# EAGLE library part ICE40HX4K-CB132 (library lattice)
IC FPGA 95 I/O CSBGA-132
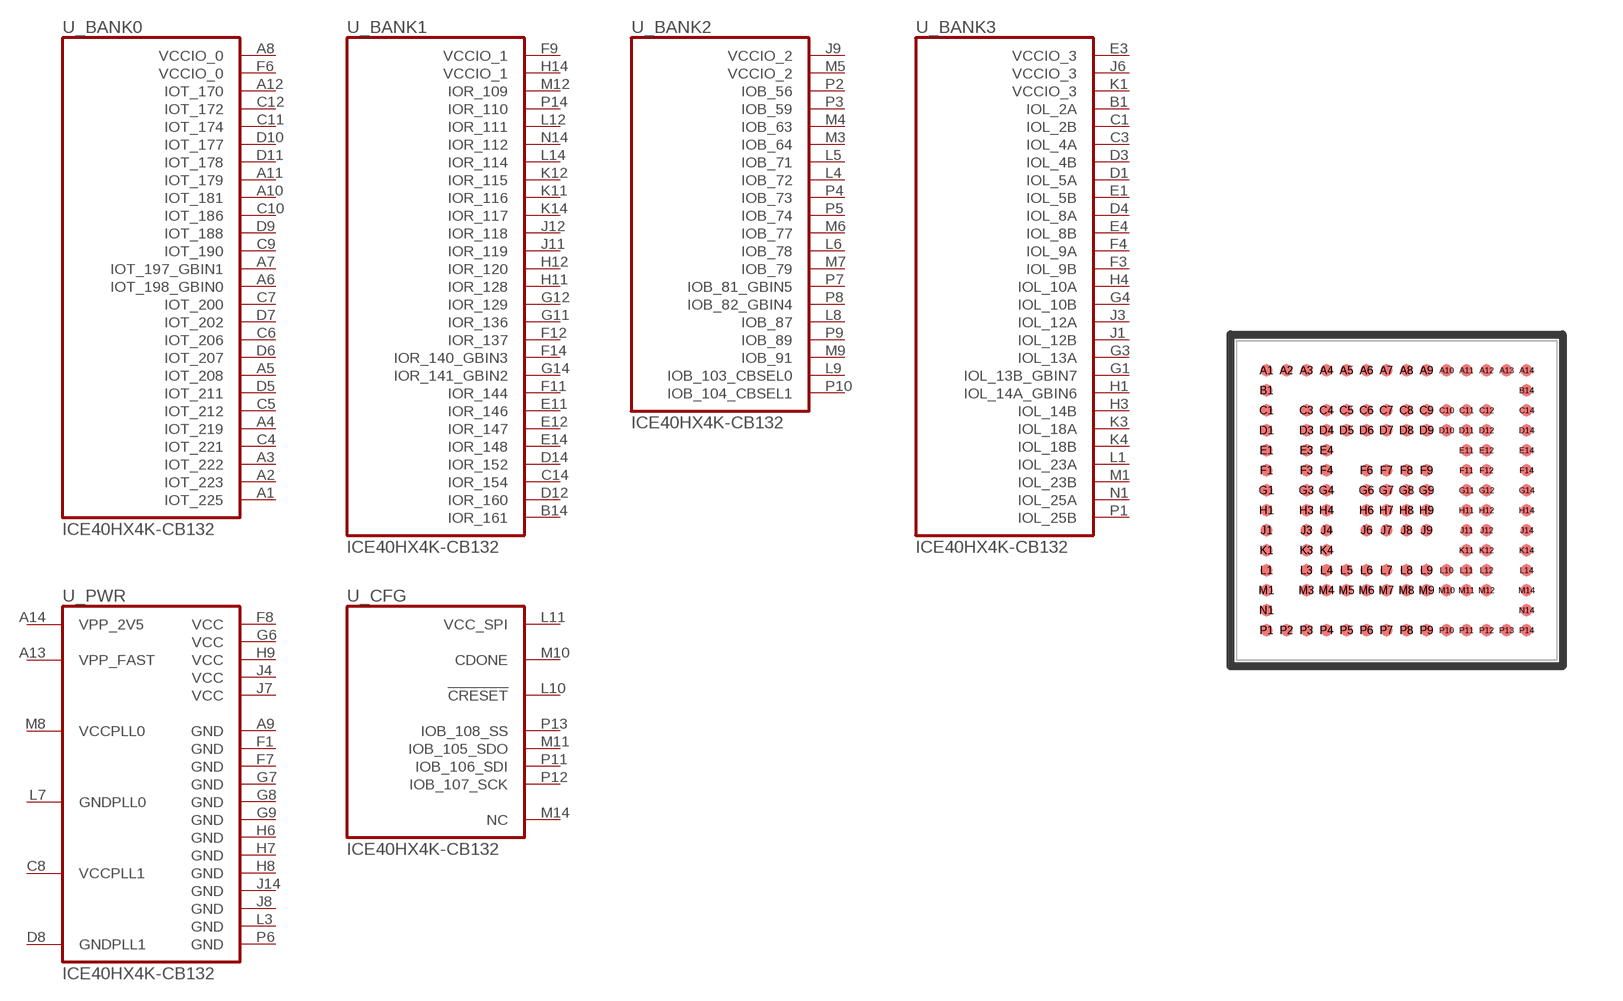
[diagram p11: symbol with the pads of CSBGA132_2; footprint CSBGA132_2]

Designator prefix U; gates _BANK0=ICE40HX4K-CB132-BANK0 _BANK2=ICE40HX4K-CB132-BANK1 _BANK1=ICE40HX4K-CB132-BANK_1 _BANK3=ICE40HX4K-CB132-BANK3 _CFG=ICE40HX4K-CB132-CFG _PWR=ICE40HX4K-CB132-PWR

## ICE40HX4K-CB132  [CSBGA132_2]
A1  _BANK0:IOT_225  pas
A2  _BANK0:IOT_223  pas
A3  _BANK0:IOT_222  pas
A4  _BANK0:IOT_219  pas
A5  _BANK0:IOT_208  pas
A6  _BANK0:IOT_198_GBIN0  pas
A7  _BANK0:IOT_197_GBIN1  pas
A8  _BANK0:VCCIO_0  pwr
A9  _PWR:GND  pwr
A10  _BANK0:IOT_181  pas
A11  _BANK0:IOT_179  pas
A12  _BANK0:IOT_170  pas
A13  _PWR:VPP_FAST  pwr
A14  _PWR:VPP_2V5  pwr
B1  _BANK3:IOL_2A  pas
B14  _BANK1:IOR_161  pas
C1  _BANK3:IOL_2B  pas
C3  _BANK3:IOL_4A  pas
C4  _BANK0:IOT_221  pas
C5  _BANK0:IOT_212  pas
C6  _BANK0:IOT_206  pas
C7  _BANK0:IOT_200  pas
C8  _PWR:VCCPLL1  pwr
C9  _BANK0:IOT_190  pas
C10  _BANK0:IOT_186  pas
C11  _BANK0:IOT_174  pas
C12  _BANK0:IOT_172  pas
C14  _BANK1:IOR_154  pas
D1  _BANK3:IOL_5A  pas
D3  _BANK3:IOL_4B  pas
D4  _BANK3:IOL_8A  pas
D5  _BANK0:IOT_211  pas
D6  _BANK0:IOT_207  pas
D7  _BANK0:IOT_202  pas
D8  _PWR:GNDPLL1  pwr
D9  _BANK0:IOT_188  pas
D10  _BANK0:IOT_177  pas
D11  _BANK0:IOT_178  pas
D12  _BANK1:IOR_160  pas
D14  _BANK1:IOR_152  pas
E1  _BANK3:IOL_5B  pas
E3  _BANK3:VCCIO_3  pwr
E4  _BANK3:IOL_8B  pas
E11  _BANK1:IOR_146  pas
E12  _BANK1:IOR_147  pas
E14  _BANK1:IOR_148  pas
F1  _PWR:GND  pwr
F3  _BANK3:IOL_9B  pas
F4  _BANK3:IOL_9A  pas
F6  _BANK0:VCCIO_0  pwr
F7  _PWR:GND  pwr
F8  _PWR:VCC  pwr
F9  _BANK1:VCCIO_1  pwr
F11  _BANK1:IOR_144  pas
F12  _BANK1:IOR_137  pas
F14  _BANK1:IOR_140_GBIN3  pas
G1  _BANK3:IOL_13B_GBIN7  pas
G3  _BANK3:IOL_13A  pas
G4  _BANK3:IOL_10B  pas
G6  _PWR:VCC  pwr
G7  _PWR:GND  pwr
G8  _PWR:GND  pwr
G9  _PWR:GND  pwr
G11  _BANK1:IOR_136  pas
G12  _BANK1:IOR_129  pas
G14  _BANK1:IOR_141_GBIN2  pas
H1  _BANK3:IOL_14A_GBIN6  pas
H3  _BANK3:IOL_14B  pas
H4  _BANK3:IOL_10A  pas
H6  _PWR:GND  pwr
H7  _PWR:GND  pwr
H8  _PWR:GND  pwr
H9  _PWR:VCC  pwr
H11  _BANK1:IOR_128  pas
H12  _BANK1:IOR_120  pas
H14  _BANK1:VCCIO_1  pwr
J1  _BANK3:IOL_12B  pas
J3  _BANK3:IOL_12A  pas
J4  _PWR:VCC  pwr
J6  _BANK3:VCCIO_3  pwr
J7  _PWR:VCC  pwr
J8  _PWR:GND  pwr
J9  _BANK2:VCCIO_2  pwr
J11  _BANK1:IOR_119  pas
J12  _BANK1:IOR_118  pas
J14  _PWR:GND  pwr
K1  _BANK3:VCCIO_3  pwr
K3  _BANK3:IOL_18A  pas
K4  _BANK3:IOL_18B  pas
K11  _BANK1:IOR_116  pas
K12  _BANK1:IOR_115  pas
K14  _BANK1:IOR_117  pas
L1  _BANK3:IOL_23A  pas
L3  _PWR:GND  pwr
L4  _BANK2:IOB_72  pas
L5  _BANK2:IOB_71  pas
L6  _BANK2:IOB_78  pas
L7  _PWR:GNDPLL0  pwr
L8  _BANK2:IOB_87  pas
L9  _BANK2:IOB_103_CBSEL0  pas
L10  _CFG:!CRESET!  pas
L11  _CFG:VCC_SPI  pwr
L12  _BANK1:IOR_111  pas
L14  _BANK1:IOR_114  pas
M1  _BANK3:IOL_23B  pas
M3  _BANK2:IOB_64  pas
M4  _BANK2:IOB_63  pas
M5  _BANK2:VCCIO_2  pwr
M6  _BANK2:IOB_77  pas
M7  _BANK2:IOB_79  pas
M8  _PWR:VCCPLL0  pwr
M9  _BANK2:IOB_91  pas
M10  _CFG:CDONE  pas
M11  _CFG:IOB_105_SDO  pas
M12  _BANK1:IOR_109  pas
M14  _CFG:NC  nc
N1  _BANK3:IOL_25A  pas
N14  _BANK1:IOR_112  pas
P1  _BANK3:IOL_25B  pas
P2  _BANK2:IOB_56  pas
P3  _BANK2:IOB_59  pas
P4  _BANK2:IOB_73  pas
P5  _BANK2:IOB_74  pas
P6  _PWR:GND  pwr
P7  _BANK2:IOB_81_GBIN5  pas
P8  _BANK2:IOB_82_GBIN4  pas
P9  _BANK2:IOB_89  pas
P10  _BANK2:IOB_104_CBSEL1  pas
P11  _CFG:IOB_106_SDI  pas
P12  _CFG:IOB_107_SCK  pas
P13  _CFG:IOB_108_SS  pas
P14  _BANK1:IOR_110  pas

## Footprint CSBGA132_2 (pad centres in mm)
132-Ball csBGA Package Option 2: iCE40
smd 0.3 x 0.3: A1 -3.25,3.25; A2 -2.75,3.25; A3 -2.25,3.25; A4 -1.75,3.25; A5 -1.25,3.25; A6 -0.75,3.25; A7 -0.25,3.25; A8 0.25,3.25; A9 0.75,3.25; A10 1.25,3.25; A11 1.75,3.25; A12 2.25,3.25; A13 2.75,3.25; A14 3.25,3.25; B1 -3.25,2.75; B14 3.25,2.75; C1 -3.25,2.25; C3 -2.25,2.25; C4 -1.75,2.25; C5 -1.25,2.25; C6 -0.75,2.25; C7 -0.25,2.25; C8 0.25,2.25; C9 0.75,2.25; C10 1.25,2.25; C11 1.75,2.25; C12 2.25,2.25; C14 3.25,2.25; D1 -3.25,1.75; D3 -2.25,1.75; D4 -1.75,1.75; D5 -1.25,1.75; D6 -0.75,1.75; D7 -0.25,1.75; D8 0.25,1.75; D9 0.75,1.75; D10 1.25,1.75; D11 1.75,1.75; D12 2.25,1.75; D14 3.25,1.75; E1 -3.25,1.25; E3 -2.25,1.25; E4 -1.75,1.25; E11 1.75,1.25; E12 2.25,1.25; E14 3.25,1.25; F1 -3.25,0.75; F3 -2.25,0.75; F4 -1.75,0.75; F6 -0.75,0.75; F7 -0.25,0.75; F8 0.25,0.75; F9 0.75,0.75; F11 1.75,0.75; F12 2.25,0.75; F14 3.25,0.75; G1 -3.25,0.25; G3 -2.25,0.25; G4 -1.75,0.25; G6 -0.75,0.25; G7 -0.25,0.25; G8 0.25,0.25; G9 0.75,0.25; G11 1.75,0.25; G12 2.25,0.25; G14 3.25,0.25; H1 -3.25,-0.25; H3 -2.25,-0.25; H4 -1.75,-0.25; H6 -0.75,-0.25; H7 -0.25,-0.25; H8 0.25,-0.25; H9 0.75,-0.25; H11 1.75,-0.25; H12 2.25,-0.25; H14 3.25,-0.25; J1 -3.25,-0.75; J3 -2.25,-0.75; J4 -1.75,-0.75; J6 -0.75,-0.75; J7 -0.25,-0.75; J8 0.25,-0.75; J9 0.75,-0.75; J11 1.75,-0.75; J12 2.25,-0.75; J14 3.25,-0.75; K1 -3.25,-1.25; K3 -2.25,-1.25; K4 -1.75,-1.25; K11 1.75,-1.25; K12 2.25,-1.25; K14 3.25,-1.25; L1 -3.25,-1.75; L3 -2.25,-1.75; L4 -1.75,-1.75; L5 -1.25,-1.75; L6 -0.75,-1.75; L7 -0.25,-1.75; L8 0.25,-1.75; L9 0.75,-1.75; L10 1.25,-1.75; L11 1.75,-1.75; L12 2.25,-1.75; L14 3.25,-1.75; M1 -3.25,-2.25; M3 -2.25,-2.25; M4 -1.75,-2.25; M5 -1.25,-2.25; M6 -0.75,-2.25; M7 -0.25,-2.25; M8 0.25,-2.25; M9 0.75,-2.25; M10 1.25,-2.25; M11 1.75,-2.25; M12 2.25,-2.25; M14 3.25,-2.25; N1 -3.25,-2.75; N14 3.25,-2.75; P1 -3.25,-3.25; P2 -2.75,-3.25; P3 -2.25,-3.25; P4 -1.75,-3.25; P5 -1.25,-3.25; P6 -0.75,-3.25; P7 -0.25,-3.25; P8 0.25,-3.25; P9 0.75,-3.25; P10 1.25,-3.25; P11 1.75,-3.25; P12 2.25,-3.25; P13 2.75,-3.25; P14 3.25,-3.25